# Altium footprint library MOUDLE-GPS-NEO-6M_24P-16X12.2MM_.PcbLib: 1 footprints
Each footprint in its own frame and in the unit in brackets; x right, y up, seen from the top. Pads: shape width x height; smd on the part's side, far side on the other; paste and mask are expansions set on the pad; w line width, h text height; cw(c..) or ccw(c..) is an arc to the next point about the centre after c.
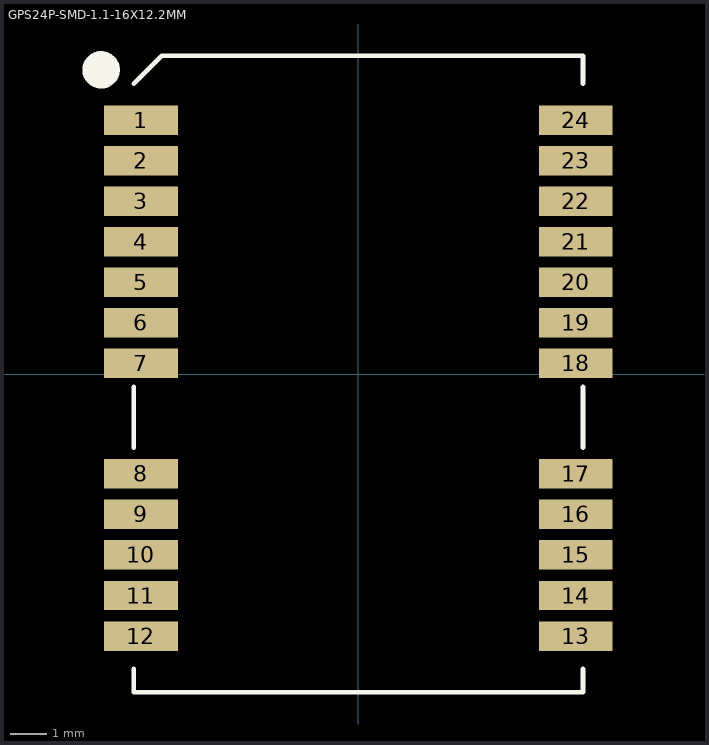
[diagram p0: the footprint, top view; thin cyan lines are the x and y axes]

## GPS24P-SMD-1.1-16X12.2MM [mm]
pads (24):
  rect 2x0.8 smd paste-25.4 mask-25.4: 1(-5.904,6.888) 2(-5.904,5.788) 3(-5.904,4.688) 4(-5.904,3.588) 5(-5.904,2.488) 6(-5.904,1.388) 7(-5.904,0.288) 8(-5.904,-2.712) 9(-5.904,-3.812) 10(-5.904,-4.912) 11(-5.904,-6.012) 12(-5.904,-7.112) 13(5.896,-7.112) 14(5.896,-6.012) 15(5.896,-4.912) 16(5.896,-3.812) 17(5.896,-2.712) 18(5.896,0.288) 19(5.896,1.388) 20(5.896,2.488) 21(5.896,3.588) 22(5.896,4.688) 23(5.896,5.788) 24(5.896,6.888)
Top Overlay:
  circle w0.508: c-6.985,8.255 r0.254
  lines w0.127: -6.096,-8.001 -6.096,-8.636 6.096,-8.636 6.096,-8.001 ; -6.096,-2 -6.096,-0.35 ; -6.096,7.874 -5.334,8.636 6.096,8.636 6.096,7.874 ; 6.096,-2 6.096,-0.35
Top Paste:
  region: 6.896,7.288 4.896,7.288 4.896,6.488 6.896,6.488
  region: 6.896,6.188 4.896,6.188 4.896,5.388 6.896,5.388
  region: 6.896,5.088 4.896,5.088 4.896,4.288 6.896,4.288
  region: 6.896,3.988 4.896,3.988 4.896,3.188 6.896,3.188
  region: 6.896,2.888 4.896,2.888 4.896,2.088 6.896,2.088
  region: 6.896,1.788 4.896,1.788 4.896,0.988 6.896,0.988
  region: 6.896,0.688 4.896,0.688 4.896,-0.112 6.896,-0.112
  region: 6.896,-2.312 4.896,-2.312 4.896,-3.112 6.896,-3.112
  region: 6.896,-3.412 4.896,-3.412 4.896,-4.212 6.896,-4.212
  region: 6.896,-4.512 4.896,-4.512 4.896,-5.312 6.896,-5.312
  region: 6.896,-5.612 4.896,-5.612 4.896,-6.412 6.896,-6.412
  region: 6.896,-6.712 4.896,-6.712 4.896,-7.512 6.896,-7.512
  region: -4.904,-6.712 -6.904,-6.712 -6.904,-7.512 -4.904,-7.512
  region: -4.904,-5.612 -6.904,-5.612 -6.904,-6.412 -4.904,-6.412
  region: -4.904,-4.512 -6.904,-4.512 -6.904,-5.312 -4.904,-5.312
  region: -4.904,-3.412 -6.904,-3.412 -6.904,-4.212 -4.904,-4.212
  region: -4.904,-2.312 -6.904,-2.312 -6.904,-3.112 -4.904,-3.112
  region: -4.904,0.688 -6.904,0.688 -6.904,-0.112 -4.904,-0.112
  region: -4.904,1.788 -6.904,1.788 -6.904,0.988 -4.904,0.988
  region: -4.904,2.888 -6.904,2.888 -6.904,2.088 -4.904,2.088
  region: -4.904,3.988 -6.904,3.988 -6.904,3.188 -4.904,3.188
  region: -4.904,5.088 -6.904,5.088 -6.904,4.288 -4.904,4.288
  region: -4.904,6.188 -6.904,6.188 -6.904,5.388 -4.904,5.388
  region: -4.904,7.288 -6.904,7.288 -6.904,6.488 -4.904,6.488
Top Solder:
  region: 6.996,7.388 4.796,7.388 4.796,6.388 6.996,6.388
  region: 6.996,6.288 4.796,6.288 4.796,5.288 6.996,5.288
  region: 6.996,5.188 4.796,5.188 4.796,4.188 6.996,4.188
  region: 6.996,4.088 4.796,4.088 4.796,3.088 6.996,3.088
  region: 6.996,2.988 4.796,2.988 4.796,1.988 6.996,1.988
  region: 6.996,1.888 4.796,1.888 4.796,0.888 6.996,0.888
  region: 6.996,0.788 4.796,0.788 4.796,-0.212 6.996,-0.212
  region: 6.996,-2.212 4.796,-2.212 4.796,-3.212 6.996,-3.212
  region: 6.996,-3.312 4.796,-3.312 4.796,-4.312 6.996,-4.312
  region: 6.996,-4.412 4.796,-4.412 4.796,-5.412 6.996,-5.412
  region: 6.996,-5.512 4.796,-5.512 4.796,-6.512 6.996,-6.512
  region: 6.996,-6.612 4.796,-6.612 4.796,-7.612 6.996,-7.612
  region: -4.804,-6.612 -7.004,-6.612 -7.004,-7.612 -4.804,-7.612
  region: -4.804,-5.512 -7.004,-5.512 -7.004,-6.512 -4.804,-6.512
  region: -4.804,-4.412 -7.004,-4.412 -7.004,-5.412 -4.804,-5.412
  region: -4.804,-3.312 -7.004,-3.312 -7.004,-4.312 -4.804,-4.312
  region: -4.804,-2.212 -7.004,-2.212 -7.004,-3.212 -4.804,-3.212
  region: -4.804,0.788 -7.004,0.788 -7.004,-0.212 -4.804,-0.212
  region: -4.804,1.888 -7.004,1.888 -7.004,0.888 -4.804,0.888
  region: -4.804,2.988 -7.004,2.988 -7.004,1.988 -4.804,1.988
  region: -4.804,4.088 -7.004,4.088 -7.004,3.088 -4.804,3.088
  region: -4.804,5.188 -7.004,5.188 -7.004,4.188 -4.804,4.188
  region: -4.804,6.288 -7.004,6.288 -7.004,5.288 -4.804,5.288
  region: -4.804,7.388 -7.004,7.388 -7.004,6.388 -4.804,6.388
3D body "User Library-UBLOX_GPS_NEO-6M.step": height 2.64, standoff 0, extent -6.053,-8.427 6.307,8.173